# Altium schematic symbol library SCH - POWER - SWITCHMODE - TI TPS62263-Q1_DRV_6.SchLib: 1 symbol
Pins are listed as number, name and electrical type; pins without a type are passive.

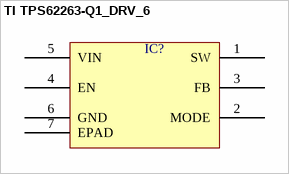
[diagram p0: symbol TI TPS62263-Q1_DRV_6]

## TI TPS62263-Q1_DRV_6
designator IC?  (value not drawn)
pins: 1 SW, 2 MODE, 3 FB, 4 EN, 5 VIN, 6 GND, 7 EPAD